# Altium footprint library PAD_08mm.PcbLib: 1 footprints
Each footprint in its own frame and in the unit in brackets; x right, y up, seen from the top. Pads: shape width x height; smd on the part's side, far side on the other; paste and mask are expansions set on the pad; w line width, h text height; cw(c..) or ccw(c..) is an arc to the next point about the centre after c.
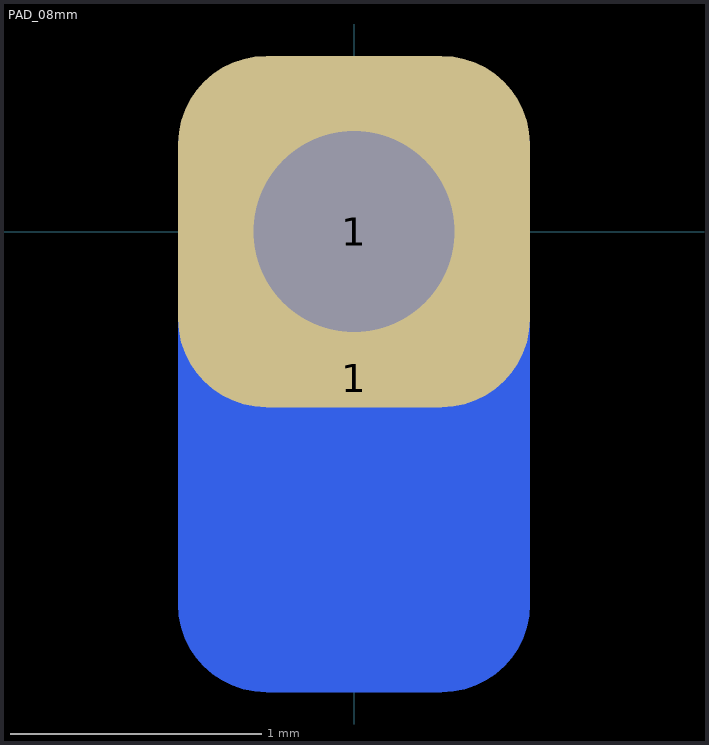
[diagram p0: the footprint, top view; thin cyan lines are the x and y axes]

## PAD_08mm [mm]
pads (2):
  rrect50% 1.4x2.5 smd far side: 1(0,-0.584)
  rrect50% 1.4x1.4 hole 0.8: 1(0,0)